# EAGLE library part SI5351*A (library tdcs)
The Si5351 is an I2C configurable clock generator The Si5351 is an I2C configurable clock generator that is ideally suited for replacing crystals, crystal oscillators, VCXOs, phase-locked loops (PLLs), and fanout buffers in cost-sensitive applications. Based on a PLL/VCXO + high resolution MultiSynth fractional divider architecture, the Si5351 can generate any frequency up to 160 MHz on each of its outputs with 0 ppm error. Three versions of the Si5351 are available to meet a wide variety of applications. The Si5351A generates up to 8 free-running clocks using an internal oscillator for replacing crystals and crystal oscillators. The Si5351B adds an internal VCXO and provides the flexibility to replace both free-running clocks and synchronous clocks. The Si5351B eliminates the need for higher cost, custom pullable crystals while providing reliable operation over a wide tuning range. The Si5351C offers the same flexibility but synchronizes to an external reference clock (CLKIN). Datasheet <http://www.silabs.com/Support%20Documents/TechnicalDocs/Si5351.pdf>
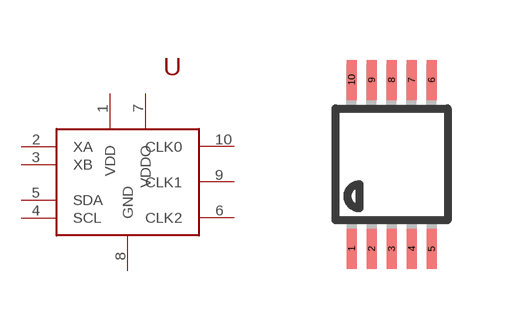
[diagram p5: symbol with the pads of MSOP10; footprint MSOP10]

Designator prefix U

## SI5351AAGT  [MSOP10]
1  VDD  in
2  XA  pas
3  XB  pas
4  SCL  oc
5  SDA
6  CLK2  pas
7  VDDO  in
8  GND  in
9  CLK1  pas
10  CLK0  pas

## Footprint MSOP10 (pad centres in mm)
10-Lead Mini Small Outline Package [MSOP] (RM-10) Source: http://www.analog.com/UploadedFiles/Data_Sheets/35641221898805SSM2167_b.pdf COMPLIANT TO JEDEC STANDARDS MO-187BA
smd 0.25 x 1: 1 -1,-2.113; 2 -0.5,-2.113; 3 0,-2.113; 4 0.5,-2.113; 5 1,-2.113; 6 1,2.113; 7 0.5,2.113; 8 0,2.113; 9 -0.5,2.113; 10 -1,2.113